# Altium footprint library SnapEDApcb.PcbLib: 1 footprints
Each footprint in its own frame and in the unit in brackets; x right, y up, seen from the top. Pads: shape width x height; smd on the part's side, far side on the other; paste and mask are expansions set on the pad; w line width, h text height; cw(c..) or ccw(c..) is an arc to the next point about the centre after c.
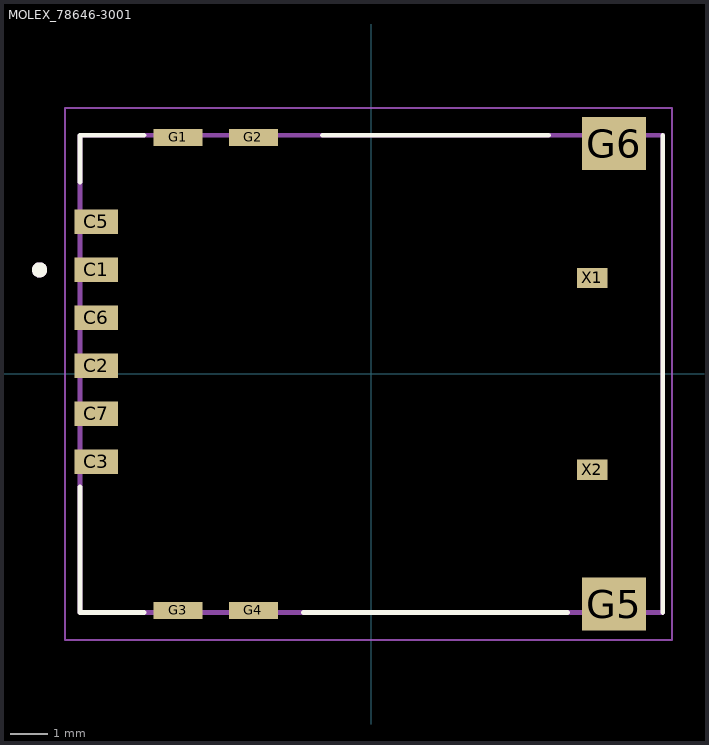
[diagram p0: the footprint, top view; thin cyan lines are the x and y axes]

## MOLEX_78646-3001 [mm]
pads (14):
  rect 1.15x0.65 smd: C1(-7.295,2.755) C2(-7.295,0.215) C3(-7.295,-2.325) C5(-7.295,4.025) C6(-7.295,1.485) C7(-7.295,-1.055)
  rect 1.3x0.45 smd: G1(-5.125,6.27) G2(-3.125,6.27) G3(-5.125,-6.27) G4(-3.125,-6.27)
  rect 1.7x1.4 smd: G5(6.435,-6.105) G6(6.435,6.105)
  rect 0.8x0.54 smd: X1(5.855,2.54) X2(5.855,-2.54)
Top Overlay:
  circle w0.2: c-8.795,2.755 r0.1
  lines w0.127: -7.725,-3 -7.725,-6.325 -6.025,-6.325 ; -7.725,5.08 -7.725,6.325 -6.025,6.325 ; -1.795,-6.325 5.205,-6.325 ; -1.295,6.325 4.705,6.325 ; 7.725,-6.325 7.725,6.325
Mechanical 13:
  circle w0.2: c-8.795,2.755 r0.1
  lines w0.127: -7.725,-6.325 -7.725,6.325 7.725,6.325 7.725,-6.325 -7.725,-6.325
Mechanical 15:
  lines w0.05: -8.12,-7.06 7.975,-7.06 7.975,7.05 -8.12,7.05 -8.12,-7.06